# EAGLE library part HSMS-281K (library avago-tech)
RF Schottky Barrier Diodes
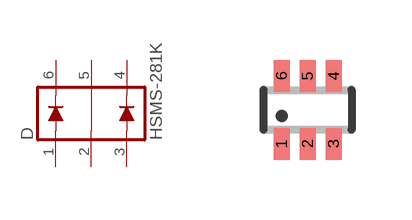
[diagram p1: symbol with the pads of SC70-6L; footprint SC70-6L]

Designator prefix D

## HSMS-281K  [SC70-6L]
1  1  pas
2  2  pas
3  3  pas
4  4  pas
5  5  pas
6  6  pas

## Footprint SC70-6L (pad centres in mm)
SC-70 Package
smd 0.4 x 0.8: 1 -0.65,-0.85; 2 0,-0.85; 3 0.65,-0.85; 4 0.65,0.85; 5 0,0.85; 6 -0.65,0.85